# Altium schematic symbol library Connectors.SchLib: 4 symbols
Pins are listed as number, name and electrical type; pins without a type are passive.

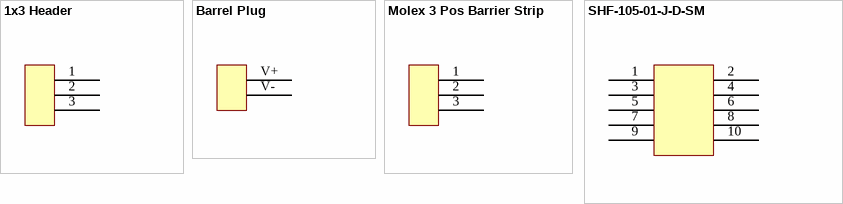
[diagram p0: symbols 1x3 Header to SHF-105-01-J-D-SM]

## 1x3 Header
designator P?  (value not drawn)
Connector Header, Single-row 3-position, 0.100" pitch; ComponentLink1Description: Manufacturer Link
footprint 1x3 Pos Header (Connector Header, Single-row 3-position, 0.100" pitch)
pins: 1, 2, 3

## Barrel Plug
designator P?, comment Barrel Power Plug
Power Plug; ComponentLink1Description: Manufacturer Link
footprint Power Plug
pins: V+, V- 2

## Molex 3 Pos Barrier Strip
designator Barrier Strip, comment 3 Pos  (value not drawn)
Molex 3 Pos Barrier Strip; ComponentLink1Description: Manufacturer Link; ComponentLink1URL: http://www.Molex.com/; ComponentLink2Description: Datasheet
footprint Molex 3 Pos Barrier Strip
pins: 1, 2, 3

## SHF-105-01-J-D-SM
designator J?
Samtec 10 pin .050 pitch shrouded connector; ComponentLink1Description: Manufacturer Link; ComponentLink1URL: http://www.samtec.com; ComponentLink2Description: Datasheet
footprint Samtec SHF-105-01-J-D-SM (Samtec Gadgeteer Connector)
pins: 1 3.3V, 2 5V, 3, 4, 5, 6, 7, 8, 9, 10 GND